# Altium schematic symbol library DMC2990UDJ-7.SchLib: 1 symbol
Pins are listed as number, name and electrical type; pins without a type are passive.

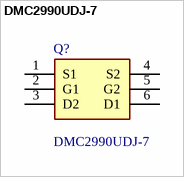
[diagram p0: symbol DMC2990UDJ-7]

## DMC2990UDJ-7
designator Q?
Complem. Pair Enhancement MOSFET SOT-963; Manufacturer_Name: Diodes Incorporated; Geometry.Height: 0.5mm; Mouser Part Number: 621-DMC2990UDJ-7; Mouser Price/Stock: https://www.mouser.co.uk/ProductDetail/Diodes-Incorporated/DMC2990UDJ-7?qs=T%2FOtf55vL7d00qRGlt4Fcw%3D%3D; MPN: DMC2990UDJ-7; Datasheet Link: https://www.diodes.com//assets/Datasheets/DMC2990UDJ.pdf
footprint SOTFL35P100X50-6N
pins: 1 S1, 2 G1, 3 D2, 4 S2, 5 G2, 6 D1